# Altium schematic symbol library ST3243.Schlib: 1 symbol
Pins are listed as number, name and electrical type; pins without a type are passive.

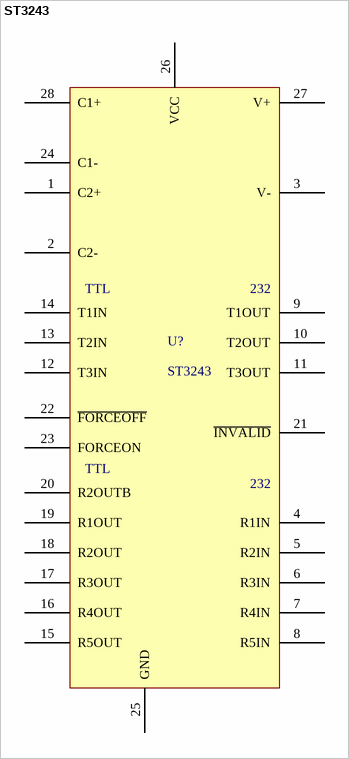
[diagram p0: symbol ST3243]

## ST3243
designator U?
pins: 1 C2+, 2 C2-, 3 V-, 4 R1IN, 5 R2IN, 6 R3IN, 7 R4IN, 8 R5IN, 9 T1OUT, 10 T2OUT, 11 T3OUT, 12 T3IN, 13 T2IN, 14 T1IN, 15 R5OUT, 16 R4OUT, 17 R3OUT, 18 R2OUT, 19 R1OUT, 20 R2OUTB, 21 ~{INVALID}, 22 ~{FORCEOFF}, 23 FORCEON, 24 C1-, 25 GND, 26 VCC, 27 V+, 28 C1+
text: TTL; 232